# Altium integrated library MainBoard.IntLib: 45 symbols
Pins are listed as number, name and electrical type; pins without a type are passive.

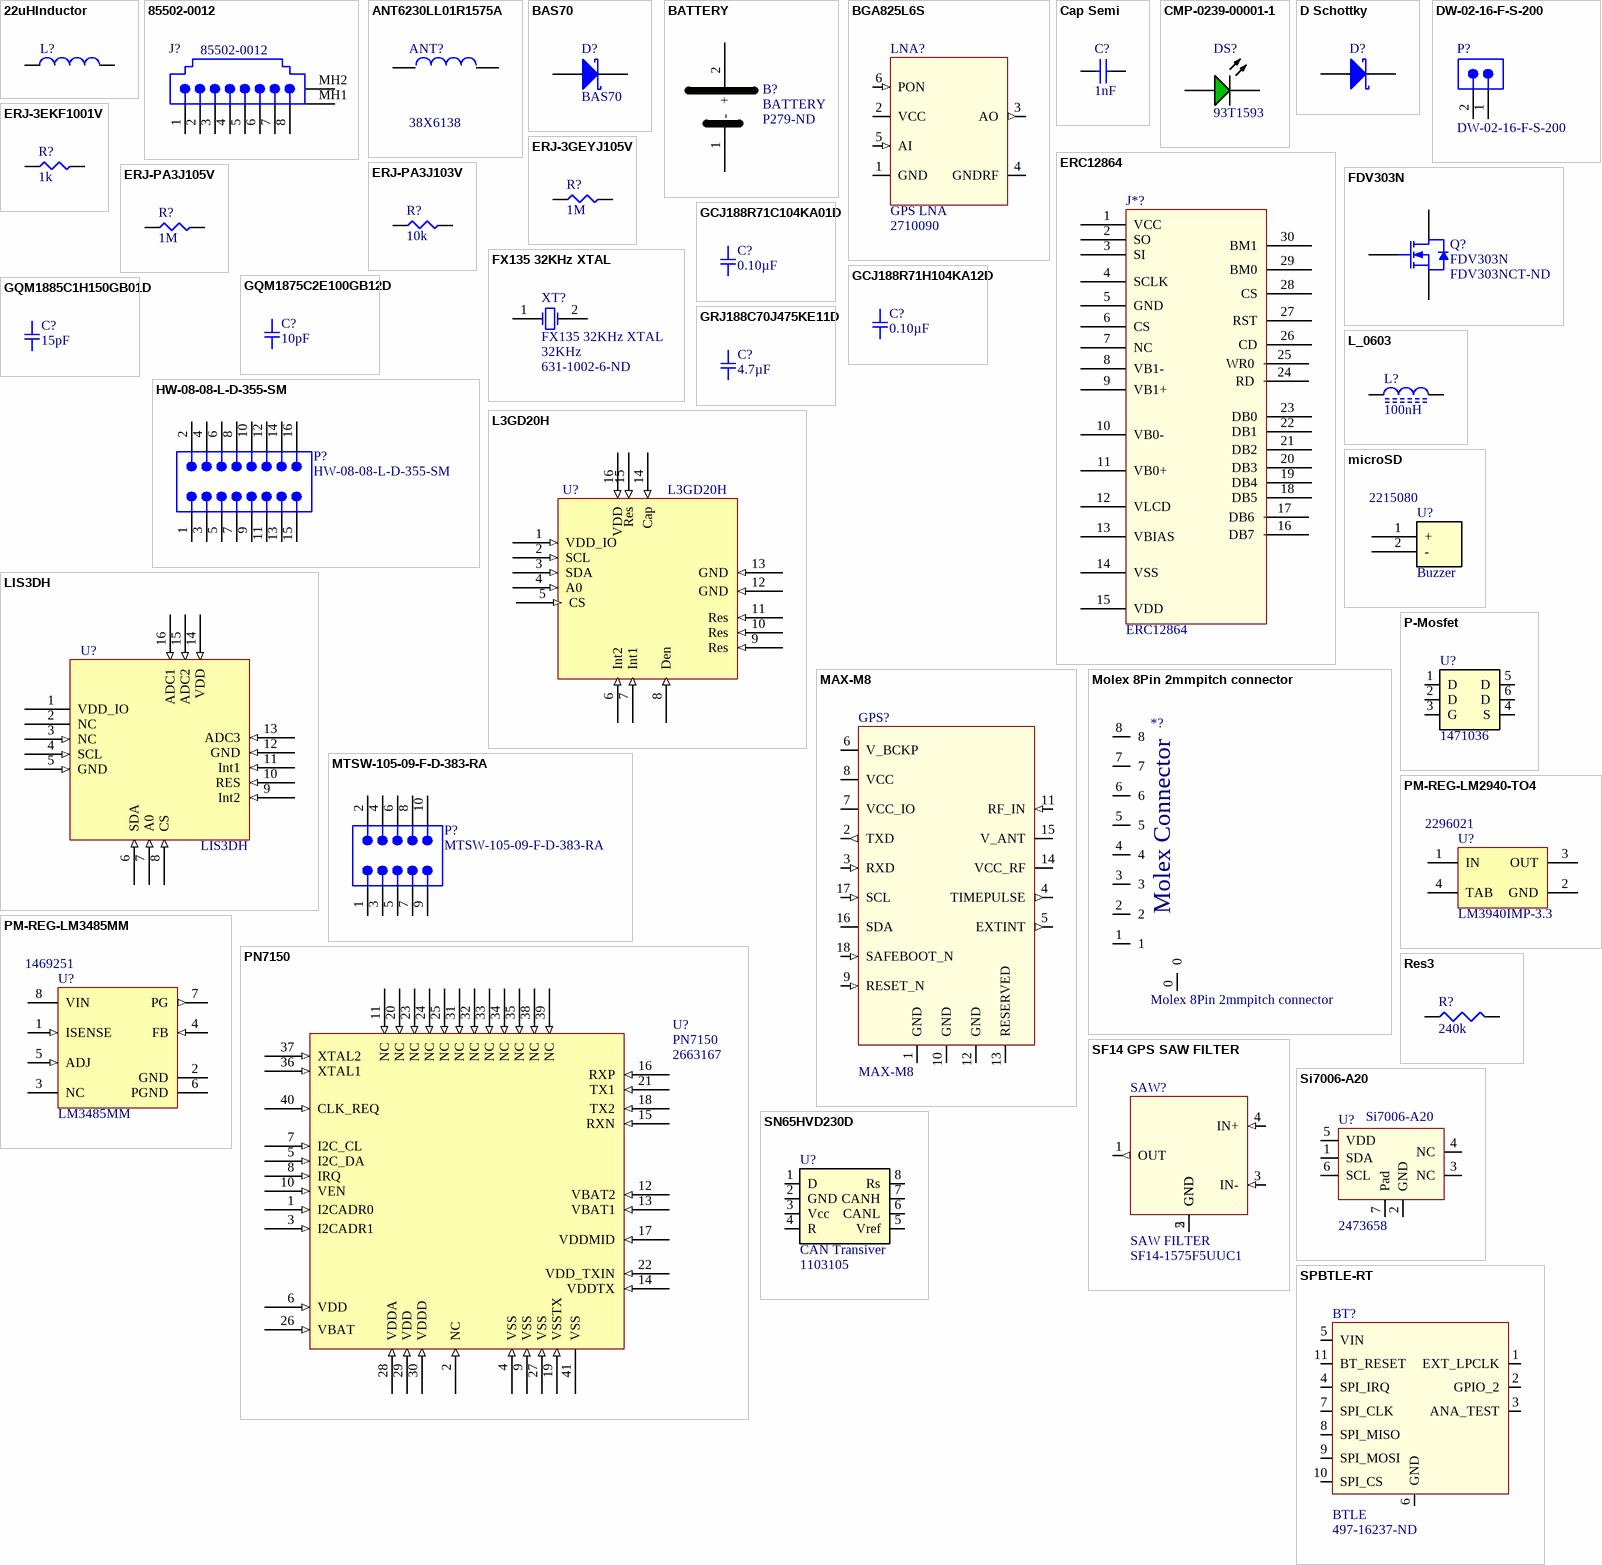
[diagram p0: symbols 22uHInductor to SPBTLE-RT]

## 22uHInductor
designator L?, comment Inductor  (value not drawn)
Serie: SRN6045 Serien; Value: 22uH; Brand: Bourns; farnell: 2061654; Supplier 1: Farnell; Supplier Part Number 1: 2061654
footprint 22uHInductor
pins: 1, 2

## 85502-0012
designator J?
SMT, Right Angle, Low Profile, Pin through Paste PCB Jack; Ports: 1; Positions/Loaded: Port1 - 8/8; PerformanceCategory: 3; PCB_Layout: Shows Position of Optional Holes for Compatibilty with the Internal Shielded Version on Mechanical Layer 1.; DrillSize: Nominal, Rounded to nearest 0.05mm; PCB_Layout: Complies with Manufacturer's Recommendation.; Published: 25-Jun-2002; DatasheetDocument: 19-Dec-2001; PackageDocument: 19-Dec-2001; PackageReference: 85502-0012; Publisher: Altium Limited; PCB_Mounting: SMT; ComponentLink1Description: Manufacturer Link; ComponentLink1URL: http://www.molex.com/; ComponentLink2Description: Datasheet; ComponentLink2URL: http://www.molex.com/cmc_upload/common_files/1212003_mx85502b.pdf; ComponentLink3Description: Iges Model; ComponentLink3URL: http://www.molex.com/pdm_docs/igs/85502-0009_igs.zip
footprint 85502-0012 (Connector; PCB Jack, SM; 1-Port, 8 Positions, 8 Loaded; Unshielded without Lightpipes; Right Angle)
signal-integrity model Modular Jack
pins: 1, 2, 3, 4, 5, 6, 7, 8, MH1 Shield, MH2 Shield

## ANT6230LL01R1575A
designator ANT?  Supplier Part Number 1: 38X6138  (hidden comment: ANT6230LL01R1575A)
Mount: Yes; Supplier 1: Newark
footprint ANT6230LL01R1575A (ceramic chip GPS antenna)
pins: 1, 2

## BAS70
designator D?
Silicon AF Schottky Diode for High-Speed Switching; Note: Pin 2 is not connected and not drawn.; Published: 21-Mar-2003; DatasheetDocument: Oct-1999; PackageDocument: Sep-2001; PackageReference: SOT-23; Publisher: Altium Limited; ComponentLink1Description: Manufacturer Link; ComponentLink1URL: http://www.infineon.com/; ComponentLink2Description: Datasheet; ComponentLink2URL: http://www.infineon.com/upload/Document/cmc_upload/documents/009/382/bas40_bas140series_1.pdf
footprint SOT-23 (SOT-23; 3 Leads; Body 3.0 x 2.6 mm, inc. leads (LxW max))
simulation model BAS70 (DIODE)
pins: 1 A, 3 K

## BATTERY
designator B?  Supplier Part Number 1: P279-ND
Supplier 1: Digi-Key
footprint Battery_cr1220 (CR1220 Lithium battery)
pins: 1 - (power), 2 + (power)

## BGA825L6S
designator LNA?, comment GPS LNA  Supplier Part Number 1: 2710090
ComponentLink1Description: DATASHEET; ComponentLink1URL: https://www.infineon.com/dgdl/BGA825L6S.pdf?folderId=db3a30431f848401011fcbf2ab4c04c4&fileId=db3a30433cd75ebf013cf2684b7427e6; Supplier 1: Farnell
footprint BGA825L6S (Infineon GPS LNA)
pins: 1 GND (power), 2 VCC (power), 3 AO (out), 4 GNDRF (power), 5 AI (in), 6 PON (in)

## Cap Semi
designator C?  value 1nF  (hidden comment: Cap Semi)
Capacitor (Semiconductor SIM Model); Published: 8-Jun-2000; LatestRevisionDate: 29-May-2009; LatestRevisionNote: IPC-7351 Footprint Added.; PackageReference: C1206; Publisher: Altium Limited; PackageDescription: Chip Capacitor
footprint C1206 (Chip Capacitor, Body 3.2x1.6mm, IPC High Density)
footprint 0402 (Chip Capacitor, Body 1.0x0.5mm, IPC High Density)
footprint C2512 (Chip Capacitor, Body 2.54x1.27mm, IPC High Density)
footprint 1608[0603] (Chip Capacitor, Body 1.6x0.8mm, IPC High Density)
footprint C1210 (Chip Capacitor, Body 3.2x2.5mm, IPC High Density)
simulation model CAP (Semiconductor Capacitor)
signal-integrity model Cap Semi
pins: 1, 2

## CMP-0239-00001-1
designator DS?, comment Supplier Part Number 1: 93T1593  (hidden comment: APG1608CGKC/T)
LED, SMT, 0603(1608), 0.25mm Thickness, Green; Forward Current: 30 mA; Reverse Voltage: 5 V; Power Dissipation: 78 mW; Packing: Reel; ComponentLink1Description: Manufacturer URL; ComponentLink1URL: http://www.kingbrightusa.com/; ComponentLink2URL: http://www.kingbrightusa.com/images/catalog/SPEC/APG1608CGKC-T.pdf; Mounting Technology: Surface Mount; Storage Temperature: -40 to 85 degC; DatasheetVersion: Rev. 5B, 10/2012; PartNumber: APG1608CGKC/T; PackageReference: LED0603-25-GREEN; ComponentLink2Description: Datasheet; PackageDescription: 2-Pin SMT LED, 1.6 x 0.8 mm Body, 0.25mm Thickness; PackageVersion: Rev. 5B, 10/2012; Supplier 1: Newark
footprint KING-LED0603-25-GREEN_V (LED, SMT, Body 1.6 x 0.8 mm, 0.25mm Thickness)
pins: 1 A, 2 K

## D Schottky
designator D?  (value not drawn)
Schottky Diode; Published: 8-Jun-2000; LatestRevisionDate: 17-Jul-2002; LatestRevisionNote: Re-released for DXP Platform.; PackageReference: SMB; Publisher: Altium Limited; PackageDescription: DO-214-AA/SMB; 2 C-Bend Leads; Body 5.3 x 3.6 mm, inc. leads (LxW); Code_JEDEC: DO-214-AA; Supplier 1: Farnell; Supplier Part Number 1: 1843480
footprint SMB (DO-214-AA/SMB; 2 C-Bend Leads; Body 5.3 x 3.6 mm, inc. leads (LxW))
simulation model SKYDIODE (Diode)
signal-integrity model D Schottky
pins: 1 A, 2 K

## DW-02-16-F-S-200
designator P?
Flexible .025" SQ Board Stacker, Through-hole, Vertical, -55 to 125 degC, 2.54 mm Pitch, 2-Pin, Male, RoHS; Manufacturer: Samtec; Pitch: 2.54 mm; DatasheetVersion: F-214; PackageVersion: AX, 8/1984; PackageReference: DW-02-16-X-S-200; PackageDescription: Low Cost Board Spacer; Orientation: Vertical; RoHS: True; Temperature Range: -55 to 125 degC; Mounting Technology: Through-hole; PartNumber: DW-02-16-F-S-200; ComponentLink1Description: Manufacturer URL; ComponentLink1URL: http://www.samtec.com; ComponentLink2Description: Datasheet; ComponentLink2URL: http://www.samtec.com/documents/webfiles/pdf/DW.PDF; ComponentLink3Description: Package Specification; ComponentLink3URL: http://www.samtec.com/documents/webfiles/cpdf/XW-XX-XX-XXX-X-XXXX-XXX-XX-XXX-MKT1.PDF
footprint SMTC-DW-02-16-X-S-200 (Low Cost Board Spacer, 1x2 Pins, Vertical, 2.54mm Pitch, Male)
pins: 1, 2

## ERC12864
designator J*?
DISPLAY CONNECTOR
footprint ER-CON30HB-1 (DISPLAY CONNECTOR)
footprint ER-CON25HB-1 (DISPLAY CONNECTOR)
pins: 1 VCC, 2 SO, 3 SI, 4 SCLK, 5 GND, 6 CS, 7 NC, 8 VB1-, 9 VB1+, 10 VB0-, 11 VB0+, 12 VLCD, 13 VBIAS, 14 VSS, 15 VDD, 16 DB7, 17 DB6, 18 DB5, 19 DB4, 20 DB3, 21 DB2, 22 DB1, 23 DB0, 24 RD, 25 WR0, 26 CD, 27 RST, 28 CS, 29 BM0, 30 BM1

## ERJ-3EKF1001V
designator R?, comment 1k
RES SMD 1K OHM 1% 1/10W 0603; Part Number: ERJ-3EKF1001V; Manufacturer: Panasonic Electronic Components; Factory Stock: 0; Unit Price (USD): 0.00379; @ qty: 1500; Minimum Quantity: 1; Power (Watts): 0.1W, 1/10W; Temperature Coefficient: ±100ppm/°C; Datasheets: http://industrial.panasonic.com/www-cgi/jvcr13pz.cgi?E+PZ+3+AOA0002+ERJ3EKF1001V+7+WW; Image: //media.digikey.com/Photos/Panasonic%20Photos/MFG_ERJ-P6W%20Series.jpg; Digi-Key Part Number: P1.00KHCT-ND; Quantity Available: 5218845; Packaging: Cut Tape (CT); Series: ERJ; Part Status: Active; Value: 1k; Tolerance: ±1%; Composition: Thick Film; Features: Automotive AEC-Q200; Operating Temperature: -55°C ~ 155°C; Package / Case: 0603 (1608 Metric); Supplier Device Package: 0603; Size / Dimension: 0.063" L x 0.031" W (1.60mm x 0.80mm); Height - Seated (Max): 0.022" (0.55mm); Number of Terminations: 2; Failure Rate: -
footprint SMD-0603-RES
pins: 1, 2

## ERJ-3GEYJ105V
designator R?, comment 1M
RES SMD 1M OHM 5% 1/10W 0603; Part Number: ERJ-3GEYJ105V; Manufacturer: Panasonic Electronic Components; Factory Stock: 0; Unit Price (USD): 0.00321; @ qty: 1500; Minimum Quantity: 1; Power (Watts): 0.1W, 1/10W; Temperature Coefficient: ±200ppm/°C; Datasheets: http://industrial.panasonic.com/www-cgi/jvcr13pz.cgi?E+PZ+3+AOA0001+ERJ3GEYJ105V+7+WW; Image: //media.digikey.com/Photos/Panasonic%20Photos/MFG_ERJ-P6W%20Series.jpg; Digi-Key Part Number: P1.0MGCT-ND; Quantity Available: 250051; Packaging: Cut Tape (CT); Series: ERJ; Part Status: Active; Value: 1M; Tolerance: ±5%; Composition: Thick Film; Features: Automotive AEC-Q200; Operating Temperature: -55°C ~ 155°C; Package / Case: 0603 (1608 Metric); Supplier Device Package: 0603; Size / Dimension: 0.063" L x 0.031" W (1.60mm x 0.80mm); Height - Seated (Max): 0.022" (0.55mm); Number of Terminations: 2; Failure Rate: -
footprint SMD-0603-RES
pins: 1, 2

## ERJ-PA3J103V
designator R?, comment 10k
RES SMD 10K OHM 5% 1/4W 0603; Part Number: ERJ-PA3J103V; Manufacturer: Panasonic Electronic Components; Factory Stock: 0; Unit Price (USD): 0.01646; @ qty: 1500; Minimum Quantity: 1; Power (Watts): 0.25W, 1/4W; Temperature Coefficient: ±200ppm/°C; Datasheets: https://industrial.panasonic.com/cdbs/www-data/pdf/RDA0000/AOA0000C243.pdf; Image: //media.digikey.com/Photos/Panasonic%20Photos/MFG_ERJ-P6W%20Series.jpg; Digi-Key Part Number: P10KBZCT-ND; Quantity Available: 26345; Packaging: Cut Tape (CT); Series: ERJ; Part Status: Active; Value: 10k; Tolerance: ±5%; Composition: Thick Film; Features: Automotive AEC-Q200, Pulse Withstanding; Operating Temperature: -55°C ~ 155°C; Package / Case: 0603 (1608 Metric); Supplier Device Package: 0603; Size / Dimension: 0.063" L x 0.031" W (1.60mm x 0.80mm); Height - Seated (Max): 0.022" (0.55mm); Number of Terminations: 2; Failure Rate: -
footprint SMD-0603-RES
pins: 1, 2

## ERJ-PA3J105V
designator R?, comment 1M
RES SMD 1M OHM 5% 1/4W 0603; Part Number: ERJ-PA3J105V; Manufacturer: Panasonic Electronic Components; Factory Stock: 0; Unit Price (USD): 0.01646; @ qty: 1500; Minimum Quantity: 1; Power (Watts): 0.25W, 1/4W; Temperature Coefficient: ±200ppm/°C; Datasheets: https://industrial.panasonic.com/cdbs/www-data/pdf/RDA0000/AOA0000C243.pdf; Image: //media.digikey.com/Photos/Panasonic%20Photos/MFG_ERJ-P6W%20Series.jpg; Digi-Key Part Number: P1MBZCT-ND; Quantity Available: 2266; Packaging: Cut Tape (CT); Series: ERJ; Part Status: Active; Value: 1M; Tolerance: ±5%; Composition: Thick Film; Features: Automotive AEC-Q200, Pulse Withstanding; Operating Temperature: -55°C ~ 155°C; Package / Case: 0603 (1608 Metric); Supplier Device Package: 0603; Size / Dimension: 0.063" L x 0.031" W (1.60mm x 0.80mm); Height - Seated (Max): 0.022" (0.55mm); Number of Terminations: 2; Failure Rate: -
footprint SMD-0603-RES
pins: 1, 2

## FDV303N
designator Q?  Supplier Part Number 1: FDV303NCT-ND
Digital FET N ch. 25V0.68A RDS0.6ohm VGSth1.5V SOT-23; Supplpartno: 9845020; Manu: Fairchild; Suppl: Farnell; Manupartno: FDV303N; Supplier 1: Digi-Key
footprint SOT23-3L (SOT23, 3-Leads, Body 2.9x1.3mm, Pitch 0.95mm, Lead Span 2.5mm, IPC High Density)
pins: 1 G, 2 S, 3 D

## FX135 32KHz XTAL
designator XT?  value 32KHz  Supplier Part Number 1: 631-1002-6-ND
Crystal Oscillator; Supplier 1: Digi-Key
footprint FX135 (SMD 3.2x1.5mm Tuning Fork)
pins: 1 OSC1, 2 OSC2

## GCJ188R71C104KA01D
designator C?, comment 0.10µF
CAP CER 0.1UF 16V X7R 0603; Part Number: GCJ188R71C104KA01D; Manufacturer: Murata Electronics North America; Factory Stock: 0; Unit Price (USD): 0.21; Minimum Quantity: 1; Tolerance: ±10%; Datasheets: http://www.murata.com/~/media/webrenewal/support/library/catalog/products/capacitor/mlcc/c03e.ashx; Image: //media.digikey.com/Renders/Murata%20Renders/0603%28LQG18%29.jpg; Digi-Key Part Number: 490-5796-1-ND; Quantity Available: 22473; @ qty: 0; Packaging: Cut Tape (CT); Series: GCJ; Part Status: Active; Value: 0.10µF; Voltage: 16V; Temperature Coefficient: X7R; Operating Temperature: -55°C ~ 125°C; Features: Soft Termination; Ratings: AEC-Q200; Applications: Automotive, Boardflex Sensitive; Mounting Type: Surface Mount, MLCC; Package / Case: 0603 (1608 Metric); Size / Dimension: 0.063" L x 0.031" W (1.60mm x 0.80mm); Height - Seated (Max): -; Thickness (Max): 0.035" (0.90mm); Lead Spacing: -; Lead Style: -
footprint SMD-0603C
pins: 1, 2

## GCJ188R71H104KA12D
designator C?, comment 0.10µF
CAP CER 0.1UF 50V X7R 0603; Part Number: GCJ188R71H104KA12D; Manufacturer: Murata Electronics North America; Factory Stock: 0; Unit Price (USD): 0.12; Minimum Quantity: 1; Tolerance: ±10%; Datasheets: http://www.murata.com/~/media/webrenewal/support/library/catalog/products/capacitor/mlcc/c03e.ashx; Image: //media.digikey.com/Renders/Murata%20Renders/0603%28LQG18%29.jpg; Digi-Key Part Number: 490-5798-1-ND; Quantity Available: 163695; @ qty: 0; Packaging: Cut Tape (CT); Series: GCJ; Part Status: Active; Value: 0.10µF; Voltage: 50V; Temperature Coefficient: X7R; Operating Temperature: -55°C ~ 125°C; Features: Soft Termination; Ratings: AEC-Q200; Applications: Automotive, Boardflex Sensitive; Mounting Type: Surface Mount, MLCC; Package / Case: 0603 (1608 Metric); Size / Dimension: 0.063" L x 0.031" W (1.60mm x 0.80mm); Height - Seated (Max): -; Thickness (Max): 0.035" (0.90mm); Lead Spacing: -; Lead Style: -
footprint SMD-0603C
pins: 1, 2

## GQM1875C2E100GB12D
designator C?, comment 10pF
CAP CER 10PF 250V NP0 0603; Part Number: GQM1875C2E100GB12D; Manufacturer: Murata Electronics North America; Factory Stock: 0; Unit Price (USD): 0.94; Minimum Quantity: 1; Tolerance: ±2%; Temperature Coefficient: C0G, NP0; Datasheets: http://www.murata.com/~/media/webrenewal/support/library/catalog/products/capacitor/mlcc/c02e.pdf; Image: //media.digikey.com/Renders/Murata%20Renders/0603%28LQG18%29.jpg; Digi-Key Part Number: 490-8119-1-ND; Quantity Available: 2874; @ qty: 0; Packaging: Cut Tape (CT); Series: GQM; Part Status: Active; Value: 10pF; Voltage: 250V; Operating Temperature: -55°C ~ 125°C; Features: High Q, Low Loss; Ratings: -; Applications: RF, Microwave, High Frequency; Mounting Type: Surface Mount, MLCC; Package / Case: 0603 (1608 Metric); Size / Dimension: 0.063" L x 0.031" W (1.60mm x 0.80mm); Height - Seated (Max): -; Thickness (Max): 0.031" (0.80mm); Lead Spacing: -; Lead Style: -
footprint SMD-0603C
pins: 1, 2

## GQM1885C1H150GB01D
designator C?, comment 15pF
CAP CER 15PF 50V NP0 0603; Part Number: GQM1885C1H150GB01D; Manufacturer: Murata Electronics North America; Factory Stock: 0; Unit Price (USD): 1.07; Minimum Quantity: 1; Tolerance: ±2%; Temperature Coefficient: C0G, NP0; Datasheets: http://www.murata.com/~/media/webrenewal/support/library/catalog/products/capacitor/mlcc/c02e.pdf; Image: //media.digikey.com/Renders/Murata%20Renders/0603%28LQG18%29.jpg; Digi-Key Part Number: 490-8129-1-ND; Quantity Available: 1392; @ qty: 0; Packaging: Cut Tape (CT); Series: GQM; Part Status: Active; Value: 15pF; Voltage: 50V; Operating Temperature: -55°C ~ 125°C; Features: High Q, Low Loss; Ratings: -; Applications: RF, Microwave, High Frequency; Mounting Type: Surface Mount, MLCC; Package / Case: 0603 (1608 Metric); Size / Dimension: 0.063" L x 0.031" W (1.60mm x 0.80mm); Height - Seated (Max): -; Thickness (Max): 0.035" (0.90mm); Lead Spacing: -; Lead Style: -
footprint SMD-0603C
pins: 1, 2

## GRJ188C70J475KE11D
designator C?, comment 4.7µF
CAP CER 4.7UF 6.3V X7S 0603; Part Number: GRJ188C70J475KE11D; Manufacturer: Murata Electronics North America; Factory Stock: 0; Unit Price (USD): 0.34; Minimum Quantity: 1; Tolerance: ±10%; Datasheets: http://www.murata.com/~/media/webrenewal/support/library/catalog/products/capacitor/mlcc/c02e.pdf; Image: //media.digikey.com/Renders/Murata%20Renders/0603%28LQG18%29.jpg; Digi-Key Part Number: 490-10884-1-ND; Quantity Available: 9234; @ qty: 0; Packaging: Cut Tape (CT); Series: GRJ; Part Status: Active; Value: 4.7µF; Voltage: 6.3V; Temperature Coefficient: X7S; Operating Temperature: -55°C ~ 125°C; Features: Soft Termination; Ratings: -; Applications: Boardflex Sensitive; Mounting Type: Surface Mount, MLCC; Package / Case: 0603 (1608 Metric); Size / Dimension: 0.063" L x 0.031" W (1.60mm x 0.80mm); Height - Seated (Max): -; Thickness (Max): 0.039" (1.00mm); Lead Spacing: -; Lead Style: -
footprint SMD-0603C
pins: 1, 2

## HW-08-08-L-D-355-SM
designator P?
Flexible .025" SQ Board Stacker, Surface Mount, Vertical, -55 to 125 degC, 2.54 mm Pitch, 16-Pin, Male, RoHS; Manufacturer: Samtec; Pitch: 2.54 mm; DatasheetVersion: F-214; PackageVersion: AW, 3/1993; PackageReference: HW-08-08-X-D-355-SM; PackageDescription: HW Board to Board Assembly; Orientation: Vertical; RoHS: True; Temperature Range: -55 to 125 degC; Mounting Technology: Surface Mount; PartNumber: HW-08-08-L-D-355-SM; ComponentLink1Description: Datasheet; ComponentLink1URL: http://www.samtec.com/documents/webfiles/pdf/HW_SM.PDF; ComponentLink2Description: Package Specification; ComponentLink2URL: http://www.samtec.com/documents/webfiles/cpdf/HW-XX-XX-XX-X-XXXX-SM-X-XXX-MKT.pdf
footprint SMTC-HW-08-08-X-D-355-SM (HW Board to Board Assembly, 2x8 Pins, Vertical, 2.54mm Pitch, Male)
pins: 1, 2, 3, 4, 5, 6, 7, 8, 9, 10, 11, 12, 13, 14, 15, 16

## L3GD20H
designator U?
footprint PQFN50P300X300X100-16N (PQFN, 16-Leads, Body 3.00x3.00mm, Pitch 0.50mm, IPC Medium Density)
pins: 1 VDD_IO (in), 2 SCL (in), 3 SDA (in), 4 A0 (in), 5 CS (in), 6 Int2 (in), 7 Int1 (in), 8 Den (in), 9 Res (in), 10 Res (in), 11 Res (in), 12 GND (in), 13 GND (in), 14 Cap (in), 15 Res (in), 16 VDD (in)

## L_0603
designator L?  value 100nH  (hidden comment: L_0603)
Manupartno: MCFT000095; Supplpartno: 1711810; Manu: MULTICOMP; Suppl: Farnell
footprint C0603 (Chip capacitor)
pins: 1, 2

## LIS3DH
designator U?
footprint PQFN50P300X300X100-16N (PQFN, 16-Leads, Body 3.00x3.00mm, Pitch 0.50mm, IPC Medium Density)
pins: 1 VDD_IO, 2 NC, 3 NC (in), 4 SCL (in), 5 GND (in), 6 SDA (in), 7 A0 (in), 8 CS (in), 9 Int2 (in), 10 RES (in), 11 Int1 (in), 12 GND (in), 13 ADC3 (in), 14 VDD (in), 15 ADC2 (in), 16 ADC1 (in)

## MAX-M8
designator GPS?
GPS MODULE; ComponentLink1Description: DATA SHEET; ComponentLink1URL: https://www.u-blox.com/sites/default/files/MAX-M8-FW3_DataSheet_%28UBX-15031506%29.pdf
footprint MAX_M8 (MAX_M8, GPS Module)
pins: 1 GND (power), 2 TXD (out), 3 RXD (in), 4 TIMEPULSE (out), 5 EXTINT (out), 6 V_BCKP (power), 7 VCC_IO (power), 8 VCC (power), 9 RESET_N (in), 10 GND (power), 11 RF_IN (in), 12 GND (power), 13 RESERVED, 14 VCC_RF (power), 15 V_ANT (power), 16 SDA (io), 17 SCL (in), 18 SAFEBOOT_N (in)

## microSD
designator U?, comment Buzzer  Supplier Part Number 1: 2215080
5V pizobuzzer; datasheet URL: http://www.farnell.com/datasheets/1498165.pdf?_ga=2.213434516.1267944979.1495558797-332768414.1495550526; Farnell URL: http://se.farnell.com/multicomp/mckpx-g1205ub-k4066/magnetic-buzzertransducer/dp/2309140; Supplier 1: Farnell
footprint buzzer
footprint buzzer
pins: 1 +, 2 -

## Molex 8Pin 2mmpitch connector
designator *?
footprint Molex 8pin 2mm pitch
pins: 0, 1, 2, 3, 4, 5, 6, 7, 8
text: Molex Connector

## MTSW-105-09-F-D-383-RA
designator P?
Modified .025" SQ Post Header, Through-hole, Right Angle, -55 to 125 degC, 2.54 mm Pitch, 10-Pin, Male, RoHS; Manufacturer: Samtec; Pitch: 2.54 mm; DatasheetVersion: F-214; PackageVersion: BI, 2/1987; PackageReference: MTSW-105-09-X-D-383-RA; PackageDescription: Assembly .025" [.64] SQ Post Terminal Strip; Orientation: Right Angle; RoHS: True; Temperature Range: -55 to 125 degC; Mounting Technology: Through-hole; PartNumber: MTSW-105-09-F-D-383-RA; ComponentLink1Description: Manufacturer URL; ComponentLink1URL: http://www.samtec.com; ComponentLink2Description: Datasheet; ComponentLink2URL: http://www.samtec.com/documents/webfiles/pdf/MTSW.PDF; ComponentLink3Description: Package Specification; ComponentLink3URL: http://www.samtec.com/documents/webfiles/cpdf/MTSW-XXX-XX-X-X-XXXX-XX-XXX-MKT1.pdf
footprint SMTC-MTSW-105-09-X-D-383-RA (Assembly .025" [.64] SQ Post Terminal Strip, 2x5 Pins, Right Angle, 2.54mm Pitch, Male)
pins: 1, 2, 3, 4, 5, 6, 7, 8, 9, 10

## P-Mosfet
designator U?  Supplier Part Number 1: 1471036  (hidden comment: P-Mosfet)
Fairchild P-Mosfet; name: FDC5614P; farnell: 1471036; Supplier 1: Farnell
footprint SuperSOT
pins: 1 D, 2 D, 3 G, 4 S, 5 D, 6 D

## PM-REG-LM2940-TO4
designator U?, comment LM3940IMP-3.3  Supplier Part Number 1: 2296021
1A Low Dropout Regulator for 5V to 3.3V Conversion, 4-pin SOT-223; Manufacturer: Texas Instruments; PackageTopMarking: XYTT*L52B; CompType: LDO IC; PowerWise: N; Code_JEDEC: TO-261-AA; PackageDescription: Molded SOT-223, 6.50 x 3.56 x 1.6mm Body, 4 Lead, 2.3mm Pitch; PinCount: 4; ComponentLink1Description: Datasheet URL; PackageReference: DCY0004A; Code_IPC: SOT223-4; ComponentLink1URL: http://www.ti.com/general/docs/lit/getliterature.tsp?genericPartNumber=LM3940&fileType=pdf; RoHS: N; Supplier 1: Farnell
footprint DCY0004A_L (SOT223, 4-Leads, Body 6.7x3.7mm, Pitch 2.3mm, IPC High Density)
footprint DCY0004A_N (SOT223, 4-Leads, Body 6.7x3.7mm, Pitch 2.3mm, IPC Medium Density)
footprint DCY0004A_M (SOT223, 4-Leads, Body 6.7x3.7mm, Pitch 2.3mm, IPC Low Density)
pins: 1 IN (power), 2 GND (power), 3 OUT (power), 4 TAB (power)

## PM-REG-LM3485MM
designator U?, comment LM3485MM  Supplier Part Number 1: 1469251
Hysteretic PFET Buck Controller, 8-pin MSOP; Manufacturer: Texas Instruments; PowerWise: N; CompType: Switcher; PackageTopMarking: ZXTT*S29B; PackageReference: DGK0008A; RoHS: N; PackageDescription: MINI SOIC, .118 x .118 x .034in, 8 Lead, .0256in Pitch; PinCount: 8; ComponentLink1URL: http://www.ti.com/general/docs/lit/getliterature.tsp?genericPartNumber=LM3485&fileType=pdf; Code_JEDEC: MO-187-AA; ComponentLink1Description: Datasheet URL; Supplier 1: Farnell
footprint DGK0008A_M (TSOP, 8-Leads, Body 3.1x3.1mm, Pitch 0.65mm, IPC Low Density)
footprint DGK0008A_L (TSOP, 8-Leads, Body 3.1x3.1mm, Pitch 0.65mm, IPC High Density)
footprint DGK0008A_N (TSOP, 8-Leads, Body 3.1x3.1mm, Pitch 0.65mm, IPC Medium Density)
pins: 1 ISENSE (in), 2 GND (power), 3 NC, 4 FB (in), 5 ADJ (in), 6 PGND (power), 7 PG (out), 8 VIN (power)

## PN7150
designator U?  Supplier Part Number 1: 2663167
Supplier 1: Farnell
footprint PQFN50P600X600X100_HS-41N (PQFN, 40-Leads, Body 6,00x6,00mm, Pitch 0,50mm, Thermal Pad 3,93x3,93mm, IPC Medium Density)
pins: 1 I2CADR0 (in), 2 NC (in), 3 I2CADR1 (in), 4 VSS (in), 5 I2C_DA (in), 6 VDD (in), 7 I2C_CL (in), 8 IRQ (in), 9 VSS (in), 10 VEN (in), 11 NC (in), 12 VBAT2 (in), 13 VBAT1 (in), 14 VDDTX (in), 15 RXN (in), 16 RXP (in), 17 VDDMID (in), 18 TX2 (in), 19 VSSTX (in), 20 NC (in), 21 TX1 (in), 22 VDD_TXIN (in), 23 NC (in), 24 NC (in), 25 NC (in), 26 VBAT (in), 27 VSS (in), 28 VDDA (in), 29 VDD (in), 30 VDDD (in), 31 NC (in), 32 NC (in), 33 NC (in), 34 NC (in), 35 NC (in), 36 XTAL1 (in), 37 XTAL2 (in), 38 NC (in), 39 NC (in), 40 CLK_REQ (in), 41 VSS

## Res3
designator R?  value 240k  (hidden comment: Res3)
Resistor; Published: 8-Jun-2000; LatestRevisionDate: 29-May-2009; LatestRevisionNote: IPC-7351 Footprint Added.; PackageReference: J1-0603; Publisher: Altium Limited; PackageDescription: Chip Resistor
footprint J1-0603 (Chip Resistor, Body 1.6x0.8mm, IPC High Density)
footprint 14-1210 (Chip Resistor, Body 3.2x2.5mm, IPC High Density)
footprint 12Z-2010 (Chip Resistor, Body 5.0x2.5mm, IPC High Density)
footprint RESC6332 (Chip Resistor, Body 6.3x3.2mm, IPC High Density)
simulation model RESISTOR (Resistor)
signal-integrity model Res
pins: 1, 2

## SF14 GPS SAW FILTER
designator SAW?, comment SAW FILTER  Supplier Part Number 1: SF14-1575F5UUC1
Supplier 1: Arrow
footprint SF14 (KYOCERA SAW FILTER)
pins: 1 OUT (out), 2 GND (power), 3 IN- (in), 4 IN+ (in), 5 GND (power)

## Si7006-A20
designator U?  Supplier Part Number 1: 2473658
Supplier 1: Farnell
pins: 1 SDA, 2 GND, 3 NC, 4 NC, 5 VDD, 6 SCL, 7 Pad

## SN65HVD230D
designator U?, comment CAN Transiver  Supplier Part Number 1: 1103105
SN65HVD230D; name: SN65HVD230D; Supplier 1: Farnell
footprint SOIC127P600X172-8N
pins: 1 D, 2 GND, 3 Vcc, 4 R, 5 Vref, 6 CANL, 7 CANH, 8 Rs

## SPBTLE-RT
designator BT?, comment BTLE  Supplier Part Number 1: 497-16237-ND
ComponentLink1Description: SPBTLE-RF; ComponentLink1URL: http://www.st.com/content/ccc/resource/technical/document/datasheet/48/74/89/26/50/8d/4e/33/DM00184006.pdf/files/DM00184006.pdf/jcr:content/translations/en.DM00184006.pdf; Supplier 1: Digi-Key
footprint SPBTLE-RF (SPBTLE-RF MODULE)
pins: 1 EXT_LPCLK, 2 GPIO_2, 3 ANA_TEST, 4 SPI_IRQ (out), 5 VIN (power), 6 GND (power), 7 SPI_CLK (in), 8 SPI_MISO (out), 9 SPI_MOSI (in), 10 SPI_CS (in), 11 BT_RESET (in)

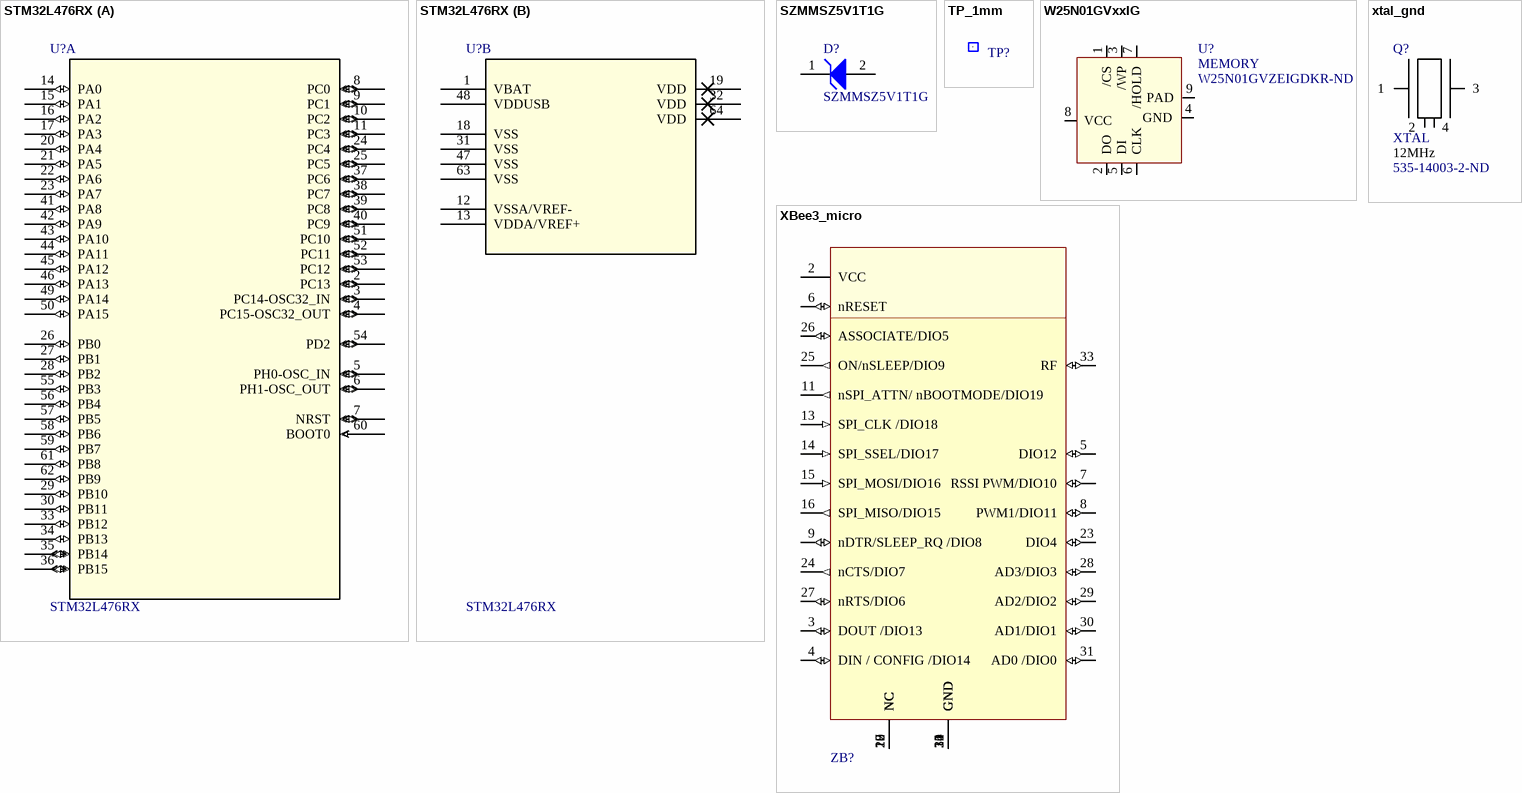
[diagram p1: symbols STM32L476RX to xtal_gnd]

## STM32L476RX
designator U?
Imported; Vendor: ST Microelectronics; Copyright: Copyright (C) 2016 Accelerated Designs. All rights reserved; Manufacturer_Part_Number: stm32l476rx; Value: Value; Type: Type; RefDes: RefDes
footprint LQFP64-10x10mm
part A pins: 2 PC13 (io), 3 PC14-OSC32_IN (io), 4 PC15-OSC32_OUT (io), 5 PH0-OSC_IN (io), 6 PH1-OSC_OUT (io), 7 NRST (io), 8 PC0 (io), 9 PC1 (io), 10 PC2 (io), 11 PC3 (io), 14 PA0 (io), 15 PA1 (io), 16 PA2 (io), 17 PA3 (io), 20 PA4 (io), 21 PA5 (io), 22 PA6 (io), 23 PA7 (io), 24 PC4 (io), 25 PC5 (io), 26 PB0 (io), 27 PB1 (io), 28 PB2 (io), 29 PB10 (io), 30 PB11 (io), 33 PB12 (io), 34 PB13 (io), 35 PB14 (io), 36 PB15 (io), 37 PC6 (io), 38 PC7 (io), 39 PC8 (io), 40 PC9 (io), 41 PA8 (io), 42 PA9 (io), 43 PA10 (io), 44 PA11 (io), 45 PA12 (io), 46 PA13 (io), 49 PA14 (io), 50 PA15 (io), 51 PC10 (io), 52 PC11 (io), 53 PC12 (io), 54 PD2 (io), 55 PB3 (io), 56 PB4 (io), 57 PB5 (io), 58 PB6 (io), 59 PB7 (io), 60 BOOT0 (in), 61 PB8 (io), 62 PB9 (io)
part B pins: 1 VBAT (power), 12 VSSA/VREF- (power), 13 VDDA/VREF+ (power), 18 VSS (power), 19 VDD (power), 31 VSS (power), 32 VDD (power), 47 VSS (power), 48 VDDUSB (power), 63 VSS (power), 64 VDD (power)

## SZMMSZ5V1T1G
designator D?
Zener Voltage Regulator, 500 mW, 2-Pin SOD-123, Pb-Free, Tape and Reel; Manufacturer: On Semiconductor; P Max (W): 0.5; DatasheetVersion: Rev. 11; PackageVersion: Rev. G, 10/2009; PackageReference: SOD-123-2-425-04; PackageDescription: 2-Pin SOD, Body 1.6 x 2.69 mm; Supplier 1: Digi-Key; Supplier Part Number 1: SZMMSZ5V1T1G-ND; Supplier 2: Newark; Supplier Part Number 2: 76T7728; Supplier 3: Mouser; Supplier Part Number 3: 863-SZMMSZ5V1T1G; Packing: Tape and Reel; RoHS: Pb-Free; Mounting Technology: Surface Mount; PartNumber: SZMMSZ5V1T1G; ComponentLink1Description: Manufacturer URL; ComponentLink1URL: http://www.onsemi.com/; ComponentLink2Description: Datasheet; ComponentLink2URL: http://www.onsemi.com/pub_link/Collateral/MMSZ2V4T1-D.PDF; ComponentLink3Description: Package Specification; ComponentLink3URL: http://www.onsemi.com/pub_link/Collateral/425-04.PDF
footprint ONSC-SOD-123-2-425-04_V (SOD, 2-Leads, Body 2.69x1.6mm)
pins: 1 K, 2 A

## TP_1mm
designator TP?  (value not drawn)
Test point 1mm round
footprint TP_1mm
pins: 1

## W25N01GVxxIG
designator U?, comment MEMORY  Supplier Part Number 1: W25N01GVZEIGDKR-ND
1GBIT SPI NAND FLASH MEMORY; Supplier 1: Digi-Key; ComponentLink1Description: W25N01GVZEIGDKR; ComponentLink1URL: https://www.google.se/url?sa=t&rct=j&q=&esrc=s&source=web&cd=1&cad=rja&uact=8&ved=0ahUKEwi7pIro97jZAhWHESwKHfFvDPsQFggmMAA&url=http%3A%2F%2Fwww.winbond.com.tw%2Fresource-files%2Fw25n01gv%2520revg%2520032116.pdf&usg=AOvVaw1gCH1bj6-uLyllod8QXIg1
footprint SON127P600X80_HS-9N (SON, 8-Leads, Body 8.00x6.00mm, Pitch 1.27mm, Thermal Pad 4.30x3.40mm, IPC Medium Density)
pins: 1 /CS, 2 DO, 3 /WP, 4 GND, 5 DI, 6 CLK, 7 /HOLD, 8 VCC, 9 PAD

## XBee3_micro
designator ZB?, comment ZigBee  (value not drawn)
ComponentLink1Description: RefMan; ComponentLink1URL: https://media.digikey.com/pdf/Data%20Sheets/Digi%20International%20PDFs/XBee3_RF_Module_HRM_10-6-17.pdf; ComponentLink2Description: uSERmANUAL; ComponentLink2URL: https://www.digi.com/resources/documentation/digidocs/90001539/#containers/cont_operation.htm%3FTocPath%3DOperation%7C_____0
footprint Digi_zigbee
pins: 1 GND (power) "Ground.", 2 VCC (power) "Power supply.", 3 DOUT /DIO13 (io) "UART data out", 4 DIN / CONFIG /DIO14 (io) "UART data in", 5 DIO12 (io) "GPIO.", 6 nRESET (io) "Device reset.", 7 RSSI PWM/DIO10 (io) "RX signal strength indicator /GPIO", 8 PWM1/DIO11 (io) "PWM", 9 nDTR/SLEEP_RQ /DIO8 (io) "Pin sleep control", 10 GND (power), 11 nSPI_ATTN/ nBOOTMODE/DIO19 (out) "Serial peripheral interface attebtion", 12 GND (power), 13 SPI_CLK /DIO18 (in), 14 SPI_SSEL/DIO17 (in), 15 SPI_MOSI/DIO16 (in), 16 SPI_MISO/DIO15 (out), 17 NC "Do not connect.", 18 NC, 19 NC, 20 NC, 21 GND (power), 22 NC, 23 DIO4 (io), 24 nCTS/DIO7 (out), 25 ON/nSLEEP/DIO9 (out), 26 ASSOCIATE/DIO5 (io), 27 nRTS/DIO6 (io), 28 AD3/DIO3 (io), 29 AD2/DIO2 (io), 30 AD1/DIO1 (io), 31 AD0 /DIO0 (io), 32 GND (power), 33 RF (io), 34 GND (power)

## xtal_gnd
designator Q?, comment XTAL  value 12MHz  Supplier Part Number 1: 535-14003-2-ND
Crystal with GND pins; LatestRevisionDate: 05-oct-2007  -  Semtech; Supplier 1: Digi-Key
footprint nd2520da (Crystal SMD 2.5x2.0mm)
pins: 1, 2, 3, 4